# Altium integrated library Altium_WE-CBA (rev22d).IntLib: 88 symbols (part 1 of 2)
Pins are listed as number, name and electrical type; pins without a type are passive.

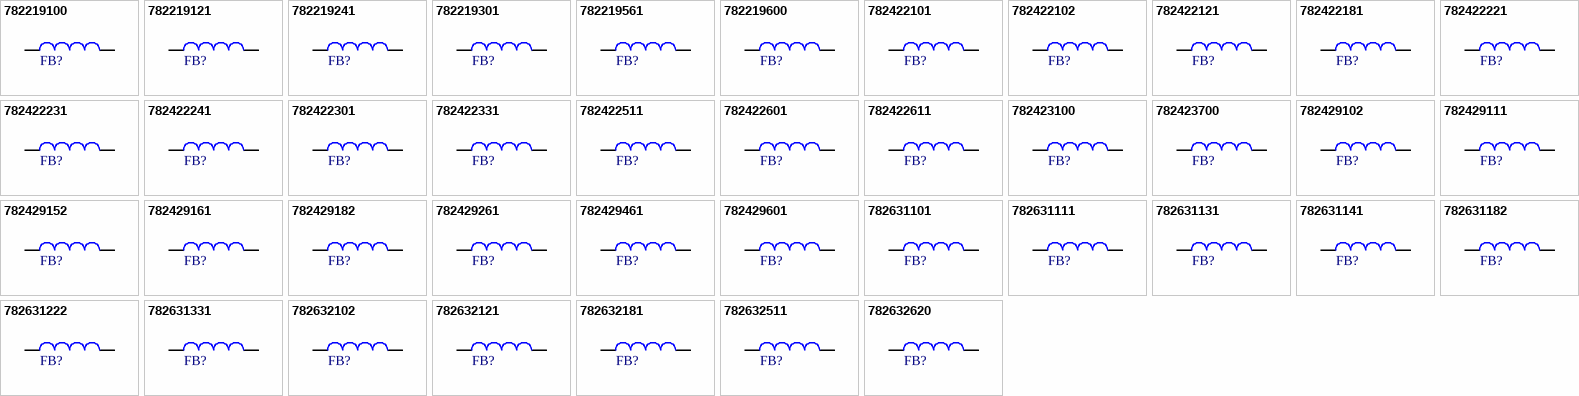
[diagram p0: symbols 782219100 to 782632620]

## 782219100
designator FB?, comment 10Ohm  (value not drawn)
WE-CBA SMT EMI Suppression Ferrite Bead, size 0201, 10Ohm, 0.65A; Manufacturer Part Number: 782219100; Manufacturer: Wurth Elektronik; Case/Size Code: 0201; DC Resistance Max: 0.055Ohm; Impedance Max: 12.6Ohm; Impedance Max Test Condition: 954MHz; Type: Wide Band; Category: Ferrites for PCB Assembly; Match Code: WE-CBA; ComponentLink1Description: Website Link; ComponentLink1URL: https://www.we-online.com/redexpert/article/782219100?ad; ComponentLink2Description: Datasheet Link; ComponentLink2URL: https://www.we-online.com/redexpert/spec/782219100?ad; Mount: Surface Mount; Operating Temperature Max: 125°C; Operating Temperature Min: -55°C; Packaging: Tape and Reel; Length: 0.6mm; Width: 0.3mm; Height: 0.3mm; Automotive: Yes; Impedance @100MHz: 10Ohm; Rated Current: 0.65A
footprint WE-CBA_0201_L0.6W0.3H0.3_HF/HS/WB
simulation model 0201_782219100_10ohm
pins: 1, 2

## 782219121
designator FB?, comment 120Ohm  (value not drawn)
WE-CBA SMT EMI Suppression Ferrite Bead, size 0201, 120Ohm, 0.25A; Manufacturer Part Number: 782219121; Manufacturer: Wurth Elektronik; Case/Size Code: 0201; DC Resistance Max: 0.29Ohm; Impedance Max: 259Ohm; Impedance Max Test Condition: 770MHz; Type: Wide Band; Category: Ferrites for PCB Assembly; Match Code: WE-CBA; ComponentLink1Description: Website Link; ComponentLink1URL: https://www.we-online.com/redexpert/article/782219121?ad; ComponentLink2Description: Datasheet Link; ComponentLink2URL: https://www.we-online.com/redexpert/spec/782219121?ad; Mount: Surface Mount; Operating Temperature Max: 125°C; Operating Temperature Min: -55°C; Packaging: Tape and Reel; Length: 0.6mm; Width: 0.3mm; Height: 0.3mm; Automotive: Yes; Impedance @100MHz: 120Ohm; Rated Current: 0.25A
footprint WE-CBA_0201_L0.6W0.3H0.3_HF/HS/WB
simulation model 0201_782219121_120ohm
pins: 1, 2

## 782219241
designator FB?, comment 240Ohm  (value not drawn)
WE-CBA SMT EMI Suppression Ferrite Bead, size 0201, 240Ohm, 0.3A; Manufacturer Part Number: 782219241; Manufacturer: Wurth Elektronik; Case/Size Code: 0201; DC Resistance Max: 0.57Ohm; Impedance Max: 536Ohm; Impedance Max Test Condition: 536MHz; Type: Wide Band; Category: Ferrites for PCB Assembly; Match Code: WE-CBA; ComponentLink1Description: Website Link; ComponentLink1URL: https://www.we-online.com/redexpert/article/782219241?ad; ComponentLink2Description: Datasheet Link; ComponentLink2URL: https://www.we-online.com/redexpert/spec/782219241?ad; Mount: Surface Mount; Operating Temperature Max: 125°C; Operating Temperature Min: -55°C; Packaging: Tape and Reel; Length: 0.6mm; Width: 0.3mm; Height: 0.3mm; Automotive: Yes; Impedance @100MHz: 240Ohm; Rated Current: 0.3A
footprint WE-CBA_0201_L0.6W0.3H0.3_HF/HS/WB
simulation model 0201_782219241_240ohm
pins: 1, 2

## 782219301
designator FB?, comment 300Ohm  (value not drawn)
WE-CBA SMT EMI Suppression Ferrite Bead, size 0201, 300Ohm, 0.4A; Manufacturer Part Number: 782219301; Manufacturer: Wurth Elektronik; Case/Size Code: 0201; DC Resistance Max: 0.61Ohm; Impedance Max: 455Ohm; Impedance Max Test Condition: 389MHz; Type: Wide Band; Category: Ferrites for PCB Assembly; Match Code: WE-CBA; ComponentLink1Description: Website Link; ComponentLink1URL: https://www.we-online.com/redexpert/article/782219301?ad; ComponentLink2Description: Datasheet Link; ComponentLink2URL: https://www.we-online.com/redexpert/spec/782219301?ad; Mount: Surface Mount; Operating Temperature Max: 125°C; Operating Temperature Min: -55°C; Packaging: Tape and Reel; Length: 0.6mm; Width: 0.3mm; Height: 0.3mm; Automotive: Yes; Impedance @100MHz: 300Ohm; Rated Current: 0.4A
footprint WE-CBA_0201_L0.6W0.3H0.3_HF/HS/WB
simulation model 0201_782219301_300ohm
pins: 1, 2

## 782219561
designator FB?, comment 560Ohm  (value not drawn)
WE-CBA SMT EMI Suppression Ferrite Bead, size 0201, 560Ohm, 0.25A; Manufacturer Part Number: 782219561; Manufacturer: Wurth Elektronik; Case/Size Code: 0201; DC Resistance Max: 0.75Ohm; Impedance Max: 750Ohm; Impedance Max Test Condition: 225MHz; Type: Wide Band; Category: Ferrites for PCB Assembly; Match Code: WE-CBA; ComponentLink1Description: Website Link; ComponentLink1URL: https://www.we-online.com/redexpert/article/782219561?ad; ComponentLink2Description: Datasheet Link; ComponentLink2URL: https://www.we-online.com/redexpert/spec/782219561?ad; Mount: Surface Mount; Operating Temperature Max: 125°C; Operating Temperature Min: -55°C; Packaging: Tape and Reel; Length: 0.6mm; Width: 0.3mm; Height: 0.3mm; Automotive: Yes; Impedance @100MHz: 560Ohm; Rated Current: 0.25A
footprint WE-CBA_0201_L0.6W0.3H0.3_HF/HS/WB
simulation model 0201_782219561_560ohm
pins: 1, 2

## 782219600
designator FB?, comment 60Ohm  (value not drawn)
WE-CBA SMT EMI Suppression Ferrite Bead, size 0201, 60Ohm, 0.4A; Manufacturer Part Number: 782219600; Manufacturer: Wurth Elektronik; Case/Size Code: 0201; DC Resistance Max: 0.25Ohm; Impedance Max: 135Ohm; Impedance Max Test Condition: 815MHz; Type: Wide Band; Category: Ferrites for PCB Assembly; Match Code: WE-CBA; ComponentLink1Description: Website Link; ComponentLink1URL: https://www.we-online.com/redexpert/article/782219600?ad; ComponentLink2Description: Datasheet Link; ComponentLink2URL: https://www.we-online.com/redexpert/spec/782219600?ad; Mount: Surface Mount; Operating Temperature Max: 125°C; Operating Temperature Min: -55°C; Packaging: Tape and Reel; Length: 0.6mm; Width: 0.3mm; Height: 0.3mm; Automotive: Yes; Impedance @100MHz: 60Ohm; Rated Current: 0.4A
footprint WE-CBA_0201_L0.6W0.3H0.3_HF/HS/WB
simulation model 0201_782219600_60ohm
pins: 1, 2

## 782422101
designator FB?, comment 100Ohm  (value not drawn)
WE-CBA SMT EMI Suppression Ferrite Bead, size 0402, 100Ohm, 0.5A; Manufacturer Part Number: 782422101; Manufacturer: Wurth Elektronik; Case/Size Code: 0402; DC Resistance Max: 0.3Ohm; Impedance Max: 180Ohm; Type: Wide Band; Category: Ferrites for PCB Assembly; Match Code: WE-CBA; ComponentLink1Description: Website Link; ComponentLink1URL: https://www.we-online.com/redexpert/article/782422101?ad; ComponentLink2Description: Datasheet Link; ComponentLink2URL: https://www.we-online.com/redexpert/spec/782422101?ad; Mount: Surface Mount; Operating Temperature Max: 125°C; Operating Temperature Min: -55°C; Packaging: Tape and Reel; Length: 1mm; Width: 0.5mm; Height: 0.5mm; Automotive: Yes; Impedance @100MHz: 100Ohm; Rated Current: 0.5A
footprint WE-CBA_0402_L1W0.5H0.5_HF/HS/WB
simulation model 0402_782422101_100ohm
pins: 1, 2

## 782422102
designator FB?, comment 1000Ohm  (value not drawn)
WE-CBA SMT EMI Suppression Ferrite Bead, size 0402, 1000Ohm, 0.2A; Manufacturer Part Number: 782422102; Manufacturer: Wurth Elektronik; Case/Size Code: 0402; DC Resistance Max: 1Ohm; Impedance Max: 1200Ohm; Type: Wide Band; Category: Ferrites for PCB Assembly; Match Code: WE-CBA; ComponentLink1Description: Website Link; ComponentLink1URL: https://www.we-online.com/redexpert/article/782422102?ad; ComponentLink2Description: Datasheet Link; ComponentLink2URL: https://www.we-online.com/redexpert/spec/782422102?ad; Mount: Surface Mount; Operating Temperature Max: 125°C; Operating Temperature Min: -55°C; Packaging: Tape and Reel; Length: 1mm; Width: 0.5mm; Height: 0.5mm; Automotive: Yes; Impedance @100MHz: 1000Ohm; Rated Current: 0.2A
footprint WE-CBA_0402_L1W0.5H0.5_HF/HS/WB
simulation model 0402_782422102_1000ohm
pins: 1, 2

## 782422121
designator FB?, comment 120Ohm  (value not drawn)
WE-CBA SMT EMI Suppression Ferrite Bead, size 0402, 120Ohm, 0.5A; Manufacturer Part Number: 782422121; Manufacturer: Wurth Elektronik; Case/Size Code: 0402; DC Resistance Max: 0.2Ohm; Impedance Max: 200Ohm; Type: Wide Band; Category: Ferrites for PCB Assembly; Match Code: WE-CBA; ComponentLink1Description: Website Link; ComponentLink1URL: https://www.we-online.com/redexpert/article/782422121?ad; ComponentLink2Description: Datasheet Link; ComponentLink2URL: https://www.we-online.com/redexpert/spec/782422121?ad; Mount: Surface Mount; Operating Temperature Max: 125°C; Operating Temperature Min: -55°C; Packaging: Tape and Reel; Length: 1mm; Width: 0.5mm; Height: 0.5mm; Automotive: Yes; Impedance @100MHz: 120Ohm; Rated Current: 0.5A
footprint WE-CBA_0402_L1W0.5H0.5_HF/HS/WB
simulation model 0402_782422121_120ohm
pins: 1, 2

## 782422181
designator FB?, comment 180Ohm  (value not drawn)
WE-CBA SMT EMI Suppression Ferrite Bead, size 0402, 180Ohm, 0.4A; Manufacturer Part Number: 782422181; Manufacturer: Wurth Elektronik; Case/Size Code: 0402; DC Resistance Max: 0.3Ohm; Impedance Max: 1000Ohm; Type: Wide Band; Category: Ferrites for PCB Assembly; Match Code: WE-CBA; ComponentLink1Description: Website Link; ComponentLink1URL: https://www.we-online.com/redexpert/article/782422181?ad; ComponentLink2Description: Datasheet Link; ComponentLink2URL: https://www.we-online.com/redexpert/spec/782422181?ad; Mount: Surface Mount; Operating Temperature Max: 125°C; Operating Temperature Min: -55°C; Packaging: Tape and Reel; Length: 1mm; Width: 0.5mm; Height: 0.5mm; Automotive: Yes; Impedance @100MHz: 180Ohm; Rated Current: 0.4A
footprint WE-CBA_0402_L1W0.5H0.5_HF/HS/WB
simulation model 0402_782422181_180ohm
pins: 1, 2

## 782422221
designator FB?, comment 220Ohm  (value not drawn)
WE-CBA SMT EMI Suppression Ferrite Bead, size 0402, 220Ohm, 0.4A; Manufacturer Part Number: 782422221; Manufacturer: Wurth Elektronik; Case/Size Code: 0402; DC Resistance Max: 0.3Ohm; Impedance Max: 330Ohm; Type: Wide Band; Category: Ferrites for PCB Assembly; Match Code: WE-CBA; ComponentLink1Description: Website Link; ComponentLink1URL: https://www.we-online.com/redexpert/article/782422221?ad; ComponentLink2Description: Datasheet Link; ComponentLink2URL: https://www.we-online.com/redexpert/spec/782422221?ad; Mount: Surface Mount; Operating Temperature Max: 125°C; Operating Temperature Min: -55°C; Packaging: Tape and Reel; Length: 1mm; Width: 0.5mm; Height: 0.5mm; Automotive: Yes; Impedance @100MHz: 220Ohm; Rated Current: 0.4A
footprint WE-CBA_0402_L1W0.5H0.5_HF/HS/WB
simulation model 0402_782422221_220ohm
pins: 1, 2

## 782422231
designator FB?, comment 220Ohm  (value not drawn)
WE-CBA SMT EMI Suppression Ferrite Bead, size 0402, 220Ohm, 0.3A; Manufacturer Part Number: 782422231; Manufacturer: Wurth Elektronik; Case/Size Code: 0402; DC Resistance Max: 0.35Ohm; Impedance Max: 360Ohm; Type: Wide Band; Category: Ferrites for PCB Assembly; Match Code: WE-CBA; ComponentLink1Description: Website Link; ComponentLink1URL: https://www.we-online.com/redexpert/article/782422231?ad; ComponentLink2Description: Datasheet Link; ComponentLink2URL: https://www.we-online.com/redexpert/spec/782422231?ad; Mount: Surface Mount; Operating Temperature Max: 125°C; Operating Temperature Min: -55°C; Packaging: Tape and Reel; Length: 1mm; Width: 0.5mm; Height: 0.5mm; Automotive: Yes; Impedance @100MHz: 220Ohm; Rated Current: 0.3A
footprint WE-CBA_0402_L1W0.5H0.5_HF/HS/WB
simulation model 0402_782422231_220ohm
pins: 1, 2

## 782422241
designator FB?, comment 240Ohm  (value not drawn)
WE-CBA SMT EMI Suppression Ferrite Bead, size 0402, 240Ohm, 0.3A; Manufacturer Part Number: 782422241; Manufacturer: Wurth Elektronik; Case/Size Code: 0402; DC Resistance Max: 0.35Ohm; Impedance Max: 290Ohm; Type: Wide Band; Category: Ferrites for PCB Assembly; Match Code: WE-CBA; ComponentLink1Description: Website Link; ComponentLink1URL: https://www.we-online.com/redexpert/article/782422241?ad; ComponentLink2Description: Datasheet Link; ComponentLink2URL: https://www.we-online.com/redexpert/spec/782422241?ad; Mount: Surface Mount; Operating Temperature Max: 125°C; Operating Temperature Min: -55°C; Packaging: Tape and Reel; Length: 1mm; Width: 0.5mm; Height: 0.5mm; Automotive: Yes; Impedance @100MHz: 240Ohm; Rated Current: 0.3A
footprint WE-CBA_0402_L1W0.5H0.5_HF/HS/WB
simulation model 0402_782422241_240ohm
pins: 1, 2

## 782422301
designator FB?, comment 300Ohm  (value not drawn)
WE-CBA SMT EMI Suppression Ferrite Bead, size 0402, 300Ohm, 0.2A; Manufacturer Part Number: 782422301; Manufacturer: Wurth Elektronik; Case/Size Code: 0402; DC Resistance Max: 0.7Ohm; Impedance Max: 400Ohm; Type: Wide Band; Category: Ferrites for PCB Assembly; Match Code: WE-CBA; ComponentLink1Description: Website Link; ComponentLink1URL: https://www.we-online.com/redexpert/article/782422301?ad; ComponentLink2Description: Datasheet Link; ComponentLink2URL: https://www.we-online.com/redexpert/spec/782422301?ad; Mount: Surface Mount; Operating Temperature Max: 125°C; Operating Temperature Min: -55°C; Packaging: Tape and Reel; Length: 1mm; Width: 0.5mm; Height: 0.5mm; Automotive: Yes; Impedance @100MHz: 300Ohm; Rated Current: 0.2A
footprint WE-CBA_0402_L1W0.5H0.5_HF/HS/WB
simulation model 0402_782422301_300ohm
pins: 1, 2

## 782422331
designator FB?, comment 330Ohm  (value not drawn)
WE-CBA SMT EMI Suppression Ferrite Bead, size 0402, 330Ohm, 0.3A; Manufacturer Part Number: 782422331; Manufacturer: Wurth Elektronik; Case/Size Code: 0402; DC Resistance Max: 0.5Ohm; Impedance Max: 640Ohm; Type: Wide Band; Category: Ferrites for PCB Assembly; Match Code: WE-CBA; ComponentLink1Description: Website Link; ComponentLink1URL: https://www.we-online.com/redexpert/article/782422331?ad; ComponentLink2Description: Datasheet Link; ComponentLink2URL: https://www.we-online.com/redexpert/spec/782422331?ad; Mount: Surface Mount; Operating Temperature Max: 125°C; Operating Temperature Min: -55°C; Packaging: Tape and Reel; Length: 1mm; Width: 0.5mm; Height: 0.5mm; Automotive: Yes; Impedance @100MHz: 330Ohm; Rated Current: 0.3A
footprint WE-CBA_0402_L1W0.5H0.5_HF/HS/WB
simulation model 0402_782422331_330ohm
pins: 1, 2

## 782422511
designator FB?, comment 510Ohm  (value not drawn)
WE-CBA SMT EMI Suppression Ferrite Bead, size 0402, 510Ohm, 0.2A; Manufacturer Part Number: 782422511; Manufacturer: Wurth Elektronik; Case/Size Code: 0402; DC Resistance Max: 0.8Ohm; Impedance Max: 730Ohm; Type: Wide Band; Category: Ferrites for PCB Assembly; Match Code: WE-CBA; ComponentLink1Description: Website Link; ComponentLink1URL: https://www.we-online.com/redexpert/article/782422511?ad; ComponentLink2Description: Datasheet Link; ComponentLink2URL: https://www.we-online.com/redexpert/spec/782422511?ad; Mount: Surface Mount; Operating Temperature Max: 125°C; Operating Temperature Min: -55°C; Packaging: Tape and Reel; Length: 1mm; Width: 0.5mm; Height: 0.5mm; Automotive: Yes; Impedance @100MHz: 510Ohm; Rated Current: 0.2A
footprint WE-CBA_0402_L1W0.5H0.5_HF/HS/WB
simulation model 0402_782422511_510ohm
pins: 1, 2

## 782422601
designator FB?, comment 600Ohm  (value not drawn)
WE-CBA SMT EMI Suppression Ferrite Bead, size 0402, 600Ohm, 0.2A; Manufacturer Part Number: 782422601; Manufacturer: Wurth Elektronik; Case/Size Code: 0402; DC Resistance Max: 0.8Ohm; Impedance Max: 800Ohm; Type: Wide Band; Category: Ferrites for PCB Assembly; Match Code: WE-CBA; ComponentLink1Description: Website Link; ComponentLink1URL: https://www.we-online.com/redexpert/article/782422601?ad; ComponentLink2Description: Datasheet Link; ComponentLink2URL: https://www.we-online.com/redexpert/spec/782422601?ad; Mount: Surface Mount; Operating Temperature Max: 125°C; Operating Temperature Min: -55°C; Packaging: Tape and Reel; Length: 1mm; Width: 0.5mm; Height: 0.5mm; Automotive: Yes; Impedance @100MHz: 600Ohm; Rated Current: 0.2A
footprint WE-CBA_0402_L1W0.5H0.5_HF/HS/WB
simulation model 0402_782422601_600ohm
pins: 1, 2

## 782422611
designator FB?, comment 600Ohm  (value not drawn)
WE-CBA SMT EMI Suppression Ferrite Bead, size 0402, 600Ohm, 0.3A; Manufacturer Part Number: 782422611; Manufacturer: Wurth Elektronik; Case/Size Code: 0402; DC Resistance Max: 0.6Ohm; Impedance Max: 900Ohm; Type: Wide Band; Category: Ferrites for PCB Assembly; Match Code: WE-CBA; ComponentLink1Description: Website Link; ComponentLink1URL: https://www.we-online.com/redexpert/article/782422611?ad; ComponentLink2Description: Datasheet Link; ComponentLink2URL: https://www.we-online.com/redexpert/spec/782422611?ad; Mount: Surface Mount; Operating Temperature Max: 125°C; Operating Temperature Min: -55°C; Packaging: Tape and Reel; Length: 1mm; Width: 0.5mm; Height: 0.5mm; Automotive: Yes; Impedance @100MHz: 600Ohm; Rated Current: 0.3A
footprint WE-CBA_0402_L1W0.5H0.5_HF/HS/WB
simulation model 0402_782422611_600ohm
pins: 1, 2

## 782423100
designator FB?, comment 10Ohm  (value not drawn)
WE-CBA SMT EMI Suppression Ferrite Bead, size 0402, 10Ohm, 1.5A; Manufacturer Part Number: 782423100; Manufacturer: Wurth Elektronik; Case/Size Code: 0402; DC Resistance Max: 0.03Ohm; Impedance Max: 17Ohm; Type: High Current; Category: Ferrites for PCB Assembly; Match Code: WE-CBA; ComponentLink1Description: Website Link; ComponentLink1URL: https://www.we-online.com/redexpert/article/782423100?ad; ComponentLink2Description: Datasheet Link; ComponentLink2URL: https://www.we-online.com/redexpert/spec/782423100?ad; Mount: Surface Mount; Operating Temperature Max: 125°C; Operating Temperature Min: -55°C; Packaging: Tape and Reel; Length: 1mm; Width: 0.5mm; Height: 0.5mm; Automotive: Yes; Impedance @100MHz: 10Ohm; Rated Current: 1.5A
footprint WE-CBA_0402_L1W0.5H0.5_HC
simulation model 0402_782423100_10ohm
pins: 1, 2

## 782423700
designator FB?, comment 70Ohm  (value not drawn)
WE-CBA SMT EMI Suppression Ferrite Bead, size 0402, 70Ohm, 1A; Manufacturer Part Number: 782423700; Manufacturer: Wurth Elektronik; Case/Size Code: 0402; DC Resistance Max: 0.09Ohm; Impedance Max: 140Ohm; Type: High Current; Category: Ferrites for PCB Assembly; Match Code: WE-CBA; ComponentLink1Description: Website Link; ComponentLink1URL: https://www.we-online.com/redexpert/article/782423700?ad; ComponentLink2Description: Datasheet Link; ComponentLink2URL: https://www.we-online.com/redexpert/spec/782423700?ad; Mount: Surface Mount; Operating Temperature Max: 125°C; Operating Temperature Min: -55°C; Packaging: Tape and Reel; Length: 1mm; Width: 0.5mm; Height: 0.5mm; Automotive: Yes; Impedance @100MHz: 70Ohm; Rated Current: 1A
footprint WE-CBA_0402_L1W0.5H0.5_HC
simulation model 0402_782423700_70ohm
pins: 1, 2

## 782429102
designator FB?, comment 1000Ohm  (value not drawn)
WE-CBA SMT EMI Suppression Ferrite Bead, size 0402, 1000Ohm, 0.48A; Manufacturer Part Number: 782429102; Manufacturer: Wurth Elektronik; Case/Size Code: 0402; DC Resistance Max: 0.48Ohm; Impedance Max: 1157Ohm; Impedance Max Test Condition: 129MHz; Type: Wide Band; Category: Ferrites for PCB Assembly; Match Code: WE-CBA; ComponentLink1Description: Website Link; ComponentLink1URL: https://www.we-online.com/redexpert/article/782429102?ad; ComponentLink2Description: Datasheet Link; ComponentLink2URL: https://www.we-online.com/redexpert/spec/782429102?ad; Mount: Surface Mount; Operating Temperature Max: 125°C; Operating Temperature Min: -55°C; Packaging: Tape and Reel; Length: 1mm; Width: 0.5mm; Height: 0.5mm; Automotive: Yes; Impedance @100MHz: 1000Ohm; Rated Current: 0.48A
footprint WE-CBA_0402_L1W0.5H0.5_HF/HS/WB
simulation model 0402_782429102_1000ohm
pins: 1, 2

## 782429111
designator FB?, comment 110Ohm  (value not drawn)
WE-CBA SMT EMI Suppression Ferrite Bead, size 0402, 110Ohm, 1.2A; Manufacturer Part Number: 782429111; Manufacturer: Wurth Elektronik; Case/Size Code: 0402; DC Resistance Max: 0.09Ohm; Impedance Max: 195Ohm; Impedance Max Test Condition: 745MHz; Type: Wide Band; Category: Ferrites for PCB Assembly; Match Code: WE-CBA; ComponentLink1Description: Website Link; ComponentLink1URL: https://www.we-online.com/redexpert/article/782429111?ad; ComponentLink2Description: Datasheet Link; ComponentLink2URL: https://www.we-online.com/redexpert/spec/782429111?ad; Mount: Surface Mount; Operating Temperature Max: 125°C; Operating Temperature Min: -55°C; Packaging: Tape and Reel; Length: 1mm; Width: 0.5mm; Height: 0.5mm; Automotive: Yes; Impedance @100MHz: 110Ohm; Rated Current: 1.2A
footprint WE-CBA_0402_L1W0.5H0.5_HF/HS/WB
simulation model 0402_782429111_110ohm
pins: 1, 2

## 782429152
designator FB?, comment 1500Ohm  (value not drawn)
WE-CBA SMT EMI Suppression Ferrite Bead, size 0402, 1500Ohm, 0.5A; Manufacturer Part Number: 782429152; Manufacturer: Wurth Elektronik; Case/Size Code: 0402; DC Resistance Max: 0.5Ohm; Impedance Max: 1533Ohm; Impedance Max Test Condition: 118MHz; Type: Wide Band; Category: Ferrites for PCB Assembly; Match Code: WE-CBA; ComponentLink1Description: Website Link; ComponentLink1URL: https://www.we-online.com/redexpert/article/782429152?ad; ComponentLink2Description: Datasheet Link; ComponentLink2URL: https://www.we-online.com/redexpert/spec/782429152?ad; Mount: Surface Mount; Operating Temperature Max: 125°C; Operating Temperature Min: -55°C; Packaging: Tape and Reel; Length: 1mm; Width: 0.5mm; Height: 0.5mm; Automotive: Yes; Impedance @100MHz: 1500Ohm; Rated Current: 0.5A
footprint WE-CBA_0402_L1W0.5H0.5_HF/HS/WB
simulation model 0402_782429152_1500ohm
pins: 1, 2

## 782429161
designator FB?, comment 160Ohm  (value not drawn)
WE-CBA SMT EMI Suppression Ferrite Bead, size 0402, 160Ohm, 1A; Manufacturer Part Number: 782429161; Manufacturer: Wurth Elektronik; Case/Size Code: 0402; DC Resistance Max: 0.15Ohm; Impedance Max: 280Ohm; Impedance Max Test Condition: 550MHz; Type: High Current; Category: Ferrites for PCB Assembly; Match Code: WE-CBA; ComponentLink1Description: Website Link; ComponentLink1URL: https://www.we-online.com/redexpert/article/782429161?ad; ComponentLink2Description: Datasheet Link; ComponentLink2URL: https://www.we-online.com/redexpert/spec/782429161?ad; Mount: Surface Mount; Operating Temperature Max: 125°C; Operating Temperature Min: -55°C; Packaging: Tape and Reel; Length: 1mm; Width: 0.5mm; Height: 0.5mm; Automotive: Yes; Impedance @100MHz: 160Ohm; Rated Current: 1A
footprint WE-CBA_0402_L1W0.5H0.5_HC
simulation model 0402_782429161_160ohm
pins: 1, 2

## 782429182
designator FB?, comment 1800Ohm  (value not drawn)
WE-CBA SMT EMI Suppression Ferrite Bead, size 0402, 1800Ohm, 0.21A; Manufacturer Part Number: 782429182; Manufacturer: Wurth Elektronik; Case/Size Code: 0402; DC Resistance Max: 2.1Ohm; Impedance Max: 2700Ohm; Impedance Max Test Condition: 450MHz; Type: High Frequency; Category: Ferrites for PCB Assembly; Match Code: WE-CBA; ComponentLink1Description: Website Link; ComponentLink1URL: https://www.we-online.com/redexpert/article/782429182?ad; ComponentLink2Description: Datasheet Link; ComponentLink2URL: https://www.we-online.com/redexpert/spec/782429182?ad; Mount: Surface Mount; Operating Temperature Max: 125°C; Operating Temperature Min: -55°C; Packaging: Tape and Reel; Length: 1mm; Width: 0.5mm; Height: 0.5mm; Automotive: Yes; Impedance @100MHz: 1800Ohm; Rated Current: 0.21A
footprint WE-CBA_0402_L1W0.5H0.5_HF/HS/WB
simulation model 0402_782429182_1800ohm
pins: 1, 2

## 782429261
designator FB?, comment 260Ohm  (value not drawn)
WE-CBA SMT EMI Suppression Ferrite Bead, size 0402, 260Ohm, 1A; Manufacturer Part Number: 782429261; Manufacturer: Wurth Elektronik; Case/Size Code: 0402; DC Resistance Max: 0.15Ohm; Impedance Max: 375Ohm; Impedance Max Test Condition: 300MHz; Type: High Current; Category: Ferrites for PCB Assembly; Match Code: WE-CBA; ComponentLink1Description: Website Link; ComponentLink1URL: https://www.we-online.com/redexpert/article/782429261?ad; ComponentLink2Description: Datasheet Link; ComponentLink2URL: https://www.we-online.com/redexpert/spec/782429261?ad; Mount: Surface Mount; Operating Temperature Max: 125°C; Operating Temperature Min: -55°C; Packaging: Tape and Reel; Length: 1mm; Width: 0.5mm; Height: 0.5mm; Automotive: Yes; Impedance @100MHz: 260Ohm; Rated Current: 1A
footprint WE-CBA_0402_L1W0.5H0.5_HC
simulation model 0402_782429261_260ohm
pins: 1, 2

## 782429461
designator FB?, comment 460Ohm  (value not drawn)
WE-CBA SMT EMI Suppression Ferrite Bead, size 0402, 460Ohm, 0.5A; Manufacturer Part Number: 782429461; Manufacturer: Wurth Elektronik; Case/Size Code: 0402; DC Resistance Max: 0.55Ohm; Impedance Max: 1250Ohm; Impedance Max Test Condition: 230MHz; Type: High Speed; Category: Ferrites for PCB Assembly; Match Code: WE-CBA; ComponentLink1Description: Website Link; ComponentLink1URL: https://www.we-online.com/redexpert/article/782429461?ad; ComponentLink2Description: Datasheet Link; ComponentLink2URL: https://www.we-online.com/redexpert/spec/782429461?ad; Mount: Surface Mount; Operating Temperature Max: 125°C; Operating Temperature Min: -55°C; Packaging: Tape and Reel; Length: 1mm; Width: 0.5mm; Height: 0.5mm; Automotive: Yes; Impedance @100MHz: 460Ohm; Rated Current: 0.5A
footprint WE-CBA_0402_L1W0.5H0.5_HF/HS/WB
simulation model 0402_782429461_460ohm
pins: 1, 2

## 782429601
designator FB?, comment 600Ohm  (value not drawn)
WE-CBA SMT EMI Suppression Ferrite Bead, size 0402, 600Ohm, 0.85A; Manufacturer Part Number: 782429601; Manufacturer: Wurth Elektronik; Case/Size Code: 0402; DC Resistance Max: 0.25Ohm; Impedance Max: 720Ohm; Impedance Max Test Condition: 211MHz; Type: Wide band; Category: Ferrites for PCB Assembly; Match Code: WE-CBA; ComponentLink1Description: Website Link; ComponentLink1URL: https://www.we-online.com/redexpert/article/782429601?ad; ComponentLink2Description: Datasheet Link; ComponentLink2URL: https://www.we-online.com/redexpert/spec/782429601?ad; Mount: Surface Mount; Operating Temperature Max: 125°C; Operating Temperature Min: -55°C; Packaging: Tape and Reel; Length: 1mm; Width: 0.5mm; Height: 0.5mm; Automotive: Yes; Impedance @100MHz: 600Ohm; Rated Current: 0.85A
footprint WE-CBA_0402_L1W0.5H0.5_HF/HS/WB
simulation model 0402_782429601_600ohm
pins: 1, 2

## 782631101
designator FB?, comment 100Ohm  (value not drawn)
WE-CBA SMT EMI Suppression Ferrite Bead, size 0603, 100Ohm, 0.5A; Manufacturer Part Number: 782631101; Manufacturer: Wurth Elektronik; Case/Size Code: 0603; DC Resistance Max: 0.2Ohm; Impedance Max: 610Ohm; Type: High Speed; Category: Ferrites for PCB Assembly; Match Code: WE-CBA; ComponentLink1Description: Website Link; ComponentLink1URL: https://www.we-online.com/redexpert/article/782631101?ad; ComponentLink2Description: Datasheet Link; ComponentLink2URL: https://www.we-online.com/redexpert/spec/782631101?ad; Mount: Surface Mount; Operating Temperature Max: 125°C; Operating Temperature Min: -55°C; Packaging: Tape and Reel; Length: 1.6mm; Width: 0.8mm; Height: 0.8mm; Automotive: Yes; Impedance @100MHz: 100Ohm; Rated Current: 0.5A
footprint WE-CBA_0603_L1.6W0.8H0.8_HF/HS/WB
simulation model 0603_782631101_100ohm
pins: 1, 2

## 782631111
designator FB?, comment 100Ohm  (value not drawn)
WE-CBA SMT EMI Suppression Ferrite Bead, size 0603, 100Ohm, 0.5A; Manufacturer Part Number: 782631111; Manufacturer: Wurth Elektronik; Case/Size Code: 0603; DC Resistance Max: 0.12Ohm; Impedance Max: 125Ohm; Type: Wide Band; Category: Ferrites for PCB Assembly; Match Code: WE-CBA; ComponentLink1Description: Website Link; ComponentLink1URL: https://www.we-online.com/redexpert/article/782631111?ad; ComponentLink2Description: Datasheet Link; ComponentLink2URL: https://www.we-online.com/redexpert/spec/782631111?ad; Mount: Surface Mount; Operating Temperature Max: 125°C; Operating Temperature Min: -55°C; Packaging: Tape and Reel; Length: 1.6mm; Width: 0.8mm; Height: 0.8mm; Automotive: Yes; Impedance @100MHz: 100Ohm; Rated Current: 0.5A
footprint WE-CBA_0603_L1.6W0.8H0.8_HF/HS/WB
simulation model 0603_782631111_100ohm
pins: 1, 2

## 782631131
designator FB?, comment 120Ohm  (value not drawn)
WE-CBA SMT EMI Suppression Ferrite Bead, size 0603, 120Ohm, 0.5A; Manufacturer Part Number: 782631131; Manufacturer: Wurth Elektronik; Case/Size Code: 0603; DC Resistance Max: 0.12Ohm; Impedance Max: 200Ohm; Type: Wide Band; Category: Ferrites for PCB Assembly; Match Code: WE-CBA; ComponentLink1Description: Website Link; ComponentLink1URL: https://www.we-online.com/redexpert/article/782631131?ad; ComponentLink2Description: Datasheet Link; ComponentLink2URL: https://www.we-online.com/redexpert/spec/782631131?ad; Mount: Surface Mount; Operating Temperature Max: 125°C; Operating Temperature Min: -55°C; Packaging: Tape and Reel; Length: 1.6mm; Width: 0.8mm; Height: 0.8mm; Automotive: Yes; Impedance @100MHz: 120Ohm; Rated Current: 0.5A
footprint WE-CBA_0603_L1.6W0.8H0.8_HF/HS/WB
simulation model 0603_782631131_120ohm
pins: 1, 2

## 782631141
designator FB?, comment 120Ohm  (value not drawn)
WE-CBA SMT EMI Suppression Ferrite Bead, size 0603, 120Ohm, 2A; Manufacturer Part Number: 782631141; Manufacturer: Wurth Elektronik; Case/Size Code: 0603; DC Resistance Max: 0.05Ohm; Impedance Max: 180Ohm; Type: High Current; Category: Ferrites for PCB Assembly; Match Code: WE-CBA; ComponentLink1Description: Website Link; ComponentLink1URL: https://www.we-online.com/redexpert/article/782631141?ad; ComponentLink2Description: Datasheet Link; ComponentLink2URL: https://www.we-online.com/redexpert/spec/782631141?ad; Mount: Surface Mount; Operating Temperature Max: 125°C; Operating Temperature Min: -55°C; Packaging: Tape and Reel; Length: 1.6mm; Width: 0.8mm; Height: 0.8mm; Automotive: Yes; Impedance @100MHz: 120Ohm; Rated Current: 2A
footprint WE-CBA_0603_L1.6W0.8H0.8_HC
simulation model 0603_782631141_120ohm
pins: 1, 2

## 782631182
designator FB?, comment 1800Ohm  (value not drawn)
WE-CBA SMT EMI Suppression Ferrite Bead, size 0603, 1800Ohm, 0.1A; Manufacturer Part Number: 782631182; Manufacturer: Wurth Elektronik; Case/Size Code: 0603; DC Resistance Max: 0.75Ohm; Impedance Max: 2300Ohm; Type: High Speed; Category: Ferrites for PCB Assembly; Match Code: WE-CBA; ComponentLink1Description: Website Link; ComponentLink1URL: https://www.we-online.com/redexpert/article/782631182?ad; ComponentLink2Description: Datasheet Link; ComponentLink2URL: https://www.we-online.com/redexpert/spec/782631182?ad; Mount: Surface Mount; Operating Temperature Max: 125°C; Operating Temperature Min: -55°C; Packaging: Tape and Reel; Length: 1.6mm; Width: 0.8mm; Height: 0.8mm; Automotive: Yes; Impedance @100MHz: 1800Ohm; Rated Current: 0.1A
footprint WE-CBA_0603_L1.6W0.8H0.8_HF/HS/WB
simulation model 0603_782631182_1800ohm
pins: 1, 2

## 782631222
designator FB?, comment 2200Ohm  (value not drawn)
WE-CBA SMT EMI Suppression Ferrite Bead, size 0603, 2200Ohm, 0.15A; Manufacturer Part Number: 782631222; Manufacturer: Wurth Elektronik; Case/Size Code: 0603; DC Resistance Max: 0.8Ohm; Impedance Max: 2250Ohm; Type: High Speed; Category: Ferrites for PCB Assembly; Match Code: WE-CBA; ComponentLink1Description: Website Link; ComponentLink1URL: https://www.we-online.com/redexpert/article/782631222?ad; ComponentLink2Description: Datasheet Link; ComponentLink2URL: https://www.we-online.com/redexpert/spec/782631222?ad; Mount: Surface Mount; Operating Temperature Max: 125°C; Operating Temperature Min: -55°C; Packaging: Tape and Reel; Length: 1.6mm; Width: 0.8mm; Height: 0.8mm; Automotive: Yes; Impedance @100MHz: 2200Ohm; Rated Current: 0.15A
footprint WE-CBA_0603_L1.6W0.8H0.8_HF/HS/WB
simulation model 0603_782631222_2200ohm
pins: 1, 2

## 782631331
designator FB?, comment 330Ohm  (value not drawn)
WE-CBA SMT EMI Suppression Ferrite Bead, size 0603, 330Ohm, 0.4A; Manufacturer Part Number: 782631331; Manufacturer: Wurth Elektronik; Case/Size Code: 0603; DC Resistance Max: 0.25Ohm; Impedance Max: 690Ohm; Type: High Speed; Category: Ferrites for PCB Assembly; Match Code: WE-CBA; ComponentLink1Description: Website Link; ComponentLink1URL: https://www.we-online.com/redexpert/article/782631331?ad; ComponentLink2Description: Datasheet Link; ComponentLink2URL: https://www.we-online.com/redexpert/spec/782631331?ad; Mount: Surface Mount; Operating Temperature Max: 125°C; Operating Temperature Min: -55°C; Packaging: Tape and Reel; Length: 1.6mm; Width: 0.8mm; Height: 0.8mm; Automotive: Yes; Impedance @100MHz: 330Ohm; Rated Current: 0.4A
footprint WE-CBA_0603_L1.6W0.8H0.8_HF/HS/WB
simulation model 0603_782631331_330ohm
pins: 1, 2

## 782632102
designator FB?, comment 1000Ohm  (value not drawn)
WE-CBA SMT EMI Suppression Ferrite Bead, size 0603, 1000Ohm, 0.2A; Manufacturer Part Number: 782632102; Manufacturer: Wurth Elektronik; Case/Size Code: 0603; DC Resistance Max: 0.5Ohm; Impedance Max: 1100Ohm; Type: Wide Band; Category: Ferrites for PCB Assembly; Match Code: WE-CBA; ComponentLink1Description: Website Link; ComponentLink1URL: https://www.we-online.com/redexpert/article/782632102?ad; ComponentLink2Description: Datasheet Link; ComponentLink2URL: https://www.we-online.com/redexpert/spec/782632102?ad; Mount: Surface Mount; Operating Temperature Max: 125°C; Operating Temperature Min: -55°C; Packaging: Tape and Reel; Length: 1.6mm; Width: 0.8mm; Height: 0.8mm; Automotive: Yes; Impedance @100MHz: 1000Ohm; Rated Current: 0.2A
footprint WE-CBA_0603_L1.6W0.8H0.8_HF/HS/WB
simulation model 0603_782632102_1000ohm
pins: 1, 2

## 782632121
designator FB?, comment 120Ohm  (value not drawn)
WE-CBA SMT EMI Suppression Ferrite Bead, size 0603, 120Ohm, 0.5A; Manufacturer Part Number: 782632121; Manufacturer: Wurth Elektronik; Case/Size Code: 0603; DC Resistance Max: 0.2Ohm; Impedance Max: 190Ohm; Type: Wide Band; Category: Ferrites for PCB Assembly; Match Code: WE-CBA; ComponentLink1Description: Website Link; ComponentLink1URL: https://www.we-online.com/redexpert/article/782632121?ad; ComponentLink2Description: Datasheet Link; ComponentLink2URL: https://www.we-online.com/redexpert/spec/782632121?ad; Mount: Surface Mount; Operating Temperature Max: 125°C; Operating Temperature Min: -55°C; Packaging: Tape and Reel; Length: 1.6mm; Width: 0.8mm; Height: 0.8mm; Automotive: Yes; Impedance @100MHz: 120Ohm; Rated Current: 0.5A
footprint WE-CBA_0603_L1.6W0.8H0.8_HF/HS/WB
simulation model 0603_782632121_120ohm
pins: 1, 2

## 782632181
designator FB?, comment 180Ohm  (value not drawn)
WE-CBA SMT EMI Suppression Ferrite Bead, size 0603, 180Ohm, 0.5A; Manufacturer Part Number: 782632181; Manufacturer: Wurth Elektronik; Case/Size Code: 0603; DC Resistance Max: 0.2Ohm; Impedance Max: 280Ohm; Type: Wide Band; Category: Ferrites for PCB Assembly; Match Code: WE-CBA; ComponentLink1Description: Website Link; ComponentLink1URL: https://www.we-online.com/redexpert/article/782632181?ad; ComponentLink2Description: Datasheet Link; ComponentLink2URL: https://www.we-online.com/redexpert/spec/782632181?ad; Mount: Surface Mount; Operating Temperature Max: 125°C; Operating Temperature Min: -55°C; Packaging: Tape and Reel; Length: 1.6mm; Width: 0.8mm; Height: 0.8mm; Automotive: Yes; Impedance @100MHz: 180Ohm; Rated Current: 0.5A
footprint WE-CBA_0603_L1.6W0.8H0.8_HF/HS/WB
simulation model 0603_782632181_180ohm
pins: 1, 2

## 782632511
designator FB?, comment 510Ohm  (value not drawn)
WE-CBA SMT EMI Suppression Ferrite Bead, size 0603, 510Ohm, 0.3A; Manufacturer Part Number: 782632511; Manufacturer: Wurth Elektronik; Case/Size Code: 0603; DC Resistance Max: 0.35Ohm; Impedance Max: 610Ohm; Type: Wide Band; Category: Ferrites for PCB Assembly; Match Code: WE-CBA; ComponentLink1Description: Website Link; ComponentLink1URL: https://www.we-online.com/redexpert/article/782632511?ad; ComponentLink2Description: Datasheet Link; ComponentLink2URL: https://www.we-online.com/redexpert/spec/782632511?ad; Mount: Surface Mount; Operating Temperature Max: 125°C; Operating Temperature Min: -55°C; Packaging: Tape and Reel; Length: 1.6mm; Width: 0.8mm; Height: 0.8mm; Automotive: Yes; Impedance @100MHz: 510Ohm; Rated Current: 0.3A
footprint WE-CBA_0603_L1.6W0.8H0.8_HF/HS/WB
simulation model 0603_782632511_510ohm
pins: 1, 2

## 782632620
designator FB?, comment 62Ohm  (value not drawn)
WE-CBA SMT EMI Suppression Ferrite Bead, size 0603, 62Ohm, 0.5A; Manufacturer Part Number: 782632620; Manufacturer: Wurth Elektronik; Case/Size Code: 0603; DC Resistance Max: 0.15Ohm; Impedance Max: 95Ohm; Type: Wide Band; Category: Ferrites for PCB Assembly; Match Code: WE-CBA; ComponentLink1Description: Website Link; ComponentLink1URL: https://www.we-online.com/redexpert/article/782632620?ad; ComponentLink2Description: Datasheet Link; ComponentLink2URL: https://www.we-online.com/redexpert/spec/782632620?ad; Mount: Surface Mount; Operating Temperature Max: 125°C; Operating Temperature Min: -55°C; Packaging: Tape and Reel; Length: 1.6mm; Width: 0.8mm; Height: 0.8mm; Automotive: Yes; Impedance @100MHz: 62Ohm; Rated Current: 0.5A
footprint WE-CBA_0603_L1.6W0.8H0.8_HF/HS/WB
simulation model 0603_782632620_62ohm
pins: 1, 2

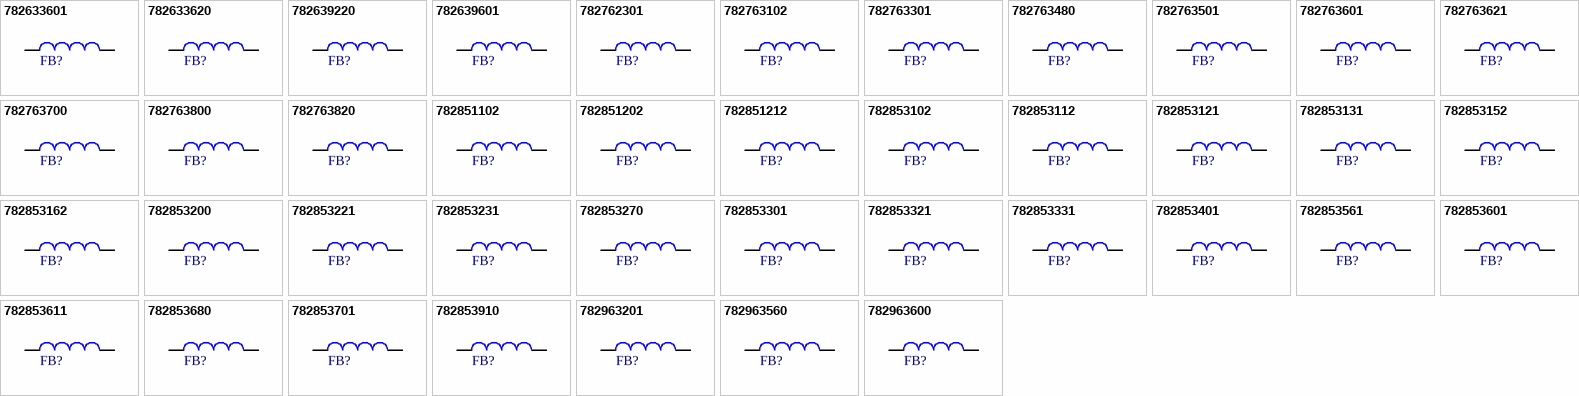
[diagram p1: symbols 782633601 to 782963600]

## 782633601
designator FB?, comment 600Ohm  (value not drawn)
WE-CBA SMT EMI Suppression Ferrite Bead, size 0603, 600Ohm, 1A; Manufacturer Part Number: 782633601; Manufacturer: Wurth Elektronik; Case/Size Code: 0603; DC Resistance Max: 0.2Ohm; Impedance Max: 660Ohm; Type: High Current; Category: Ferrites for PCB Assembly; Match Code: WE-CBA; ComponentLink1Description: Website Link; ComponentLink1URL: https://www.we-online.com/redexpert/article/782633601?ad; ComponentLink2Description: Datasheet Link; ComponentLink2URL: https://www.we-online.com/redexpert/spec/782633601?ad; Mount: Surface Mount; Operating Temperature Max: 125°C; Operating Temperature Min: -55°C; Packaging: Tape and Reel; Length: 1.6mm; Width: 0.8mm; Height: 0.8mm; Automotive: Yes; Impedance @100MHz: 600Ohm; Rated Current: 1A
footprint WE-CBA_0603_L1.6W0.8H0.8_HC
simulation model 0603_782633601_600ohm
pins: 1, 2

## 782633620
designator FB?, comment 62Ohm  (value not drawn)
WE-CBA SMT EMI Suppression Ferrite Bead, size 0603, 62Ohm, 2.5A; Manufacturer Part Number: 782633620; Manufacturer: Wurth Elektronik; Case/Size Code: 0603; DC Resistance Max: 0.04Ohm; Impedance Max: 98Ohm; Type: High Current; Category: Ferrites for PCB Assembly; Match Code: WE-CBA; ComponentLink1Description: Website Link; ComponentLink1URL: https://www.we-online.com/redexpert/article/782633620?ad; ComponentLink2Description: Datasheet Link; ComponentLink2URL: https://www.we-online.com/redexpert/spec/782633620?ad; Mount: Surface Mount; Operating Temperature Max: 125°C; Operating Temperature Min: -55°C; Packaging: Tape and Reel; Length: 1.6mm; Width: 0.8mm; Height: 0.8mm; Automotive: Yes; Impedance @100MHz: 62Ohm; Rated Current: 2.5A
footprint WE-CBA_0603_L1.6W0.8H0.8_HC
simulation model 0603_782633620_62ohm
pins: 1, 2

## 782639220
designator FB?, comment 22Ohm  (value not drawn)
WE-CBA SMT EMI Suppression Ferrite Bead, size 0603, 22Ohm, 7.5A; Manufacturer Part Number: 782639220; Manufacturer: Wurth Elektronik; Case/Size Code: 0603; DC Resistance Max: 0.004Ohm; Impedance Max: 41Ohm; Impedance Max Test Condition: 1660MHz; Type: High Current; Category: Ferrites for PCB Assembly; Match Code: WE-CBA; ComponentLink1Description: Website Link; ComponentLink1URL: https://www.we-online.com/redexpert/article/782639220?ad; ComponentLink2Description: Datasheet Link; ComponentLink2URL: https://www.we-online.com/redexpert/spec/782639220?ad; Mount: Surface Mount; Operating Temperature Max: 125°C; Operating Temperature Min: -55°C; Packaging: Tape and Reel; Length: 1.6mm; Width: 0.8mm; Height: 0.8mm; Automotive: Yes; Impedance @100MHz: 22Ohm; Rated Current: 7.5A
footprint WE-CBA_0603_L1.6W0.8H0.8_HC
simulation model 0603_782639220_22ohm
pins: 1, 2

## 782639601
designator FB?, comment 600Ohm  (value not drawn)
WE-CBA SMT EMI Suppression Ferrite Bead, size 0603, 600Ohm, 1.5A; Manufacturer Part Number: 782639601; Manufacturer: Wurth Elektronik; Case/Size Code: 0603; DC Resistance Max: 0.1Ohm; Impedance Max: 634Ohm; Impedance Max Test Condition: 184MHz; Type: High Current; Category: Ferrites for PCB Assembly; Match Code: WE-CBA; ComponentLink1Description: Website Link; ComponentLink1URL: https://www.we-online.com/redexpert/article/782639601?ad; ComponentLink2Description: Datasheet Link; ComponentLink2URL: https://www.we-online.com/redexpert/spec/782639601?ad; Mount: Surface Mount; Operating Temperature Max: 125°C; Operating Temperature Min: -55°C; Packaging: Tape and Reel; Length: 1.6mm; Width: 0.8mm; Height: 0.8mm; Automotive: Yes; Impedance @100MHz: 600Ohm; Rated Current: 1.5A
footprint WE-CBA_0603_L1.6W0.8H0.8_HC
simulation model 0603_782639601_600ohm
pins: 1, 2

## 782762301
designator FB?, comment 300Ohm  (value not drawn)
WE-CBA SMT EMI Suppression Ferrite Bead, size 1206, 300Ohm, 0.5A; Manufacturer Part Number: 782762301; Manufacturer: Wurth Elektronik; Case/Size Code: 1206; DC Resistance Max: 0.1Ohm; Impedance Max: 360Ohm; Type: Wide Band; Category: Ferrites for PCB Assembly; Match Code: WE-CBA; ComponentLink1Description: Website Link; ComponentLink1URL: https://www.we-online.com/redexpert/article/782762301?ad; ComponentLink2Description: Datasheet Link; ComponentLink2URL: https://www.we-online.com/redexpert/spec/782762301?ad; Mount: Surface Mount; Operating Temperature Max: 125°C; Operating Temperature Min: -55°C; Packaging: Tape and Reel; Length: 3.2mm; Width: 1.6mm; Height: 1.1mm; Automotive: Yes; Impedance @100MHz: 300Ohm; Rated Current: 0.5A
footprint WE-CBA_1206_L3.2W1.6H1.1_HF/HS/WB
simulation model 1206_782762301_300ohm
pins: 1, 2

## 782763102
designator FB?, comment 1000Ohm  (value not drawn)
WE-CBA SMT EMI Suppression Ferrite Bead, size 1206, 1000Ohm, 1A; Manufacturer Part Number: 782763102; Manufacturer: Wurth Elektronik; Case/Size Code: 1206; DC Resistance Max: 0.3Ohm; Impedance Max: 1200Ohm; Type: High Current; Category: Ferrites for PCB Assembly; Match Code: WE-CBA; ComponentLink1Description: Website Link; ComponentLink1URL: https://www.we-online.com/redexpert/article/782763102?ad; ComponentLink2Description: Datasheet Link; ComponentLink2URL: https://www.we-online.com/redexpert/spec/782763102?ad; Mount: Surface Mount; Operating Temperature Max: 125°C; Operating Temperature Min: -55°C; Packaging: Tape and Reel; Length: 3.2mm; Width: 1.6mm; Height: 1.1mm; Automotive: Yes; Impedance @100MHz: 1000Ohm; Rated Current: 1A
footprint WE-CBA_1206_L3.2W1.6H1.1_HC
simulation model 1206_782763102_1000ohm
pins: 1, 2

## 782763301
designator FB?, comment 300Ohm  (value not drawn)
WE-CBA SMT EMI Suppression Ferrite Bead, size 1206, 300Ohm, 3A; Manufacturer Part Number: 782763301; Manufacturer: Wurth Elektronik; Case/Size Code: 1206; DC Resistance Max: 0.06Ohm; Impedance Max: 330Ohm; Type: High Current; Category: Ferrites for PCB Assembly; Match Code: WE-CBA; ComponentLink1Description: Website Link; ComponentLink1URL: https://www.we-online.com/redexpert/article/782763301?ad; ComponentLink2Description: Datasheet Link; ComponentLink2URL: https://www.we-online.com/redexpert/spec/782763301?ad; Mount: Surface Mount; Operating Temperature Max: 125°C; Operating Temperature Min: -55°C; Packaging: Tape and Reel; Length: 3.2mm; Width: 1.6mm; Height: 1.1mm; Automotive: Yes; Impedance @100MHz: 300Ohm; Rated Current: 3A
footprint WE-CBA_1206_L3.2W1.6H1.1_HC
simulation model 1206_782763301_300ohm
pins: 1, 2

## 782763480
designator FB?, comment 48Ohm  (value not drawn)
WE-CBA SMT EMI Suppression Ferrite Bead, size 1206, 48Ohm, 6A; Manufacturer Part Number: 782763480; Manufacturer: Wurth Elektronik; Case/Size Code: 1206; DC Resistance Max: 0.005Ohm; Impedance Max: 90Ohm; Type: High Current; Category: Ferrites for PCB Assembly; Match Code: WE-CBA; ComponentLink1Description: Website Link; ComponentLink1URL: https://www.we-online.com/redexpert/article/782763480?ad; ComponentLink2Description: Datasheet Link; ComponentLink2URL: https://www.we-online.com/redexpert/spec/782763480?ad; Mount: Surface Mount; Operating Temperature Max: 125°C; Operating Temperature Min: -55°C; Packaging: Tape and Reel; Length: 3.2mm; Width: 1.6mm; Height: 1.1mm; Automotive: Yes; Impedance @100MHz: 48Ohm; Rated Current: 6A
footprint WE-CBA_1206_L3.2W1.6H1.1_HC
simulation model 1206_782763480_48ohm
pins: 1, 2

## 782763501
designator FB?, comment 500Ohm  (value not drawn)
WE-CBA SMT EMI Suppression Ferrite Bead, size 1206, 500Ohm, 2.5A; Manufacturer Part Number: 782763501; Manufacturer: Wurth Elektronik; Case/Size Code: 1206; DC Resistance Max: 0.06Ohm; Impedance Max: 610Ohm; Type: High Current; Category: Ferrites for PCB Assembly; Match Code: WE-CBA; ComponentLink1Description: Website Link; ComponentLink1URL: https://www.we-online.com/redexpert/article/782763501?ad; ComponentLink2Description: Datasheet Link; ComponentLink2URL: https://www.we-online.com/redexpert/spec/782763501?ad; Mount: Surface Mount; Operating Temperature Max: 125°C; Operating Temperature Min: -55°C; Packaging: Tape and Reel; Length: 3.2mm; Width: 1.6mm; Height: 1.1mm; Automotive: Yes; Impedance @100MHz: 500Ohm; Rated Current: 2.5A
footprint WE-CBA_1206_L3.2W1.6H1.1_HC
simulation model 1206_782763501_500ohm
pins: 1, 2

## 782763601
designator FB?, comment 600Ohm  (value not drawn)
WE-CBA SMT EMI Suppression Ferrite Bead, size 1206, 600Ohm, 2.5A; Manufacturer Part Number: 782763601; Manufacturer: Wurth Elektronik; Case/Size Code: 1206; DC Resistance Max: 0.048Ohm; Impedance Max: 650Ohm; Type: High Current; Category: Ferrites for PCB Assembly; Match Code: WE-CBA; ComponentLink1Description: Website Link; ComponentLink1URL: https://www.we-online.com/redexpert/article/782763601?ad; ComponentLink2Description: Datasheet Link; ComponentLink2URL: https://www.we-online.com/redexpert/spec/782763601?ad; Mount: Surface Mount; Operating Temperature Max: 125°C; Operating Temperature Min: -55°C; Packaging: Tape and Reel; Length: 3.2mm; Width: 1.6mm; Height: 1.1mm; Automotive: Yes; Impedance @100MHz: 600Ohm; Rated Current: 2.5A
footprint WE-CBA_1206_L3.2W1.6H1.1_HC
simulation model 1206_782763601_600ohm
pins: 1, 2

## 782763621
designator FB?, comment 620Ohm  (value not drawn)
WE-CBA SMT EMI Suppression Ferrite Bead, size 1206, 620Ohm, 1.5A; Manufacturer Part Number: 782763621; Manufacturer: Wurth Elektronik; Case/Size Code: 1206; DC Resistance Max: 0.1Ohm; Type: High Current; Category: Ferrites for PCB Assembly; Match Code: WE-CBA; ComponentLink1Description: Website Link; ComponentLink1URL: https://www.we-online.com/redexpert/article/782763621?ad; ComponentLink2Description: Datasheet Link; ComponentLink2URL: https://www.we-online.com/redexpert/spec/782763621?ad; Mount: Surface Mount; Operating Temperature Max: 125°C; Operating Temperature Min: -55°C; Packaging: Tape and Reel; Length: 3.2mm; Width: 1.6mm; Height: 1.1mm; Automotive: Yes; Impedance @100MHz: 620Ohm; Impedance Max: 620Ohm; Rated Current: 1.5A
footprint WE-CBA_1206_L3.2W1.6H1.1_HC
simulation model 1206_782763621_620ohm
pins: 1, 2

## 782763700
designator FB?, comment 70Ohm  (value not drawn)
WE-CBA SMT EMI Suppression Ferrite Bead, size 1206, 70Ohm, 0.5A; Manufacturer Part Number: 782763700; Manufacturer: Wurth Elektronik; Case/Size Code: 1206; DC Resistance Max: 0.15Ohm; Impedance Max: 105Ohm; Type: High Speed; Category: Ferrites for PCB Assembly; Match Code: WE-CBA; ComponentLink1Description: Website Link; ComponentLink1URL: https://www.we-online.com/redexpert/article/782763700?ad; ComponentLink2Description: Datasheet Link; ComponentLink2URL: https://www.we-online.com/redexpert/spec/782763700?ad; Mount: Surface Mount; Operating Temperature Max: 125°C; Operating Temperature Min: -55°C; Packaging: Tape and Reel; Length: 3.2mm; Width: 1.6mm; Height: 1.1mm; Automotive: Yes; Impedance @100MHz: 70Ohm; Rated Current: 0.5A
footprint WE-CBA_1206_L3.2W1.6H1.1_HF/HS/WB
simulation model 1206_782763700_70ohm
pins: 1, 2

## 782763800
designator FB?, comment 80Ohm  (value not drawn)
WE-CBA SMT EMI Suppression Ferrite Bead, size 1206, 80Ohm, 4A; Manufacturer Part Number: 782763800; Manufacturer: Wurth Elektronik; Case/Size Code: 1206; DC Resistance Max: 0.02Ohm; Impedance Max: 160Ohm; Type: High Current; Category: Ferrites for PCB Assembly; Match Code: WE-CBA; ComponentLink1Description: Website Link; ComponentLink1URL: https://www.we-online.com/redexpert/article/782763800?ad; ComponentLink2Description: Datasheet Link; ComponentLink2URL: https://www.we-online.com/redexpert/spec/782763800?ad; Mount: Surface Mount; Operating Temperature Max: 125°C; Operating Temperature Min: -55°C; Packaging: Tape and Reel; Length: 3.2mm; Width: 1.6mm; Height: 1.1mm; Automotive: Yes; Impedance @100MHz: 80Ohm; Rated Current: 4A
footprint WE-CBA_1206_L3.2W1.6H1.1_HC
simulation model 1206_782763800_80ohm
pins: 1, 2

## 782763820
designator FB?, comment 82Ohm  (value not drawn)
WE-CBA SMT EMI Suppression Ferrite Bead, size 1206, 82Ohm, 3A; Manufacturer Part Number: 782763820; Manufacturer: Wurth Elektronik; Case/Size Code: 1206; DC Resistance Max: 0.025Ohm; Impedance Max: 130Ohm; Type: High Current; Category: Ferrites for PCB Assembly; Match Code: WE-CBA; ComponentLink1Description: Website Link; ComponentLink1URL: https://www.we-online.com/redexpert/article/782763820?ad; ComponentLink2Description: Datasheet Link; ComponentLink2URL: https://www.we-online.com/redexpert/spec/782763820?ad; Mount: Surface Mount; Operating Temperature Max: 125°C; Operating Temperature Min: -55°C; Packaging: Tape and Reel; Length: 3.2mm; Width: 1.6mm; Height: 1.1mm; Automotive: Yes; Impedance @100MHz: 82Ohm; Rated Current: 3A
footprint WE-CBA_1206_L3.2W1.6H1.1_HC
simulation model 1206_782763820_82ohm
pins: 1, 2